# Altium schematic symbol library DE2E3KY332MA3BM02F.SchLib: 1 symbol
Pins are listed as number, name and electrical type; pins without a type are passive.

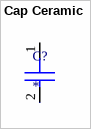
[diagram p0: symbol Cap Ceramic]

## Cap Ceramic
designator C?
Cap Ceramic 0.0033uF 250VAC E 20% (9 X 5mm) Radial 7.5mm 125Â°C Bulk DE2E3KY332MA3BM02F; MF: {'manufacturer': u'Murata'}; Availability: Unavailable; MP: DE2E3KY332MA3BM02F; Value: *; Price: None; Package: None
footprint CAPRR750W60L900T500H900B
pins: 1, 2